# Altium schematic symbol library Schlib2.SchLib: 2 symbols
Pins are listed as number, name and electrical type; pins without a type are passive.

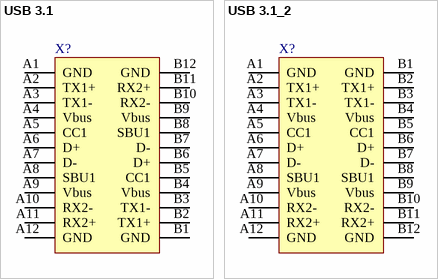
[diagram p0: symbols USB 3.1 to USB 3.1_2]

## USB 3.1
designator X?, comment USB_3_1  (value not drawn)
USB 3.1 Connector; Manufacturer: Amphenol Commercial Products; Manufacturer Part Number: 12401548E4#2A; Connector Type: USB - C; Number of Contacts: 24; Gender: Receptacle; Specifications: USB 3.1, Superspeed+; Supplier 1: Digi-Key; Supplier Part Number 1: 12401548E4#2ACT-ND; RoHS: RoHS Compliant; Category: Connectors, Interconnects; Stock 1: 5275; Pricing 1: 1=1.87, 10=1.698, 25=1.594, 50=1.5246, 100=1.4553, 250=1.31672 (USD); Packaging: Cut Tape (CT); Mounting Type: Surface Mount, Right Angle; Through Hole; Features: Board Guide; Ingress Protection: -; ComponentLink1URL: https://www.amphenolcanada.com/ProductSearch/drawings/AC/12401548E4#2A.pdf; ComponentLink1Description: https://www.amphenolcanada.com/ProductSearch/drawings/AC/12401548E4#2A.pdf
footprint USB_3.1
pins: A1 GND, A2 TX1+, A3 TX1-, A4 Vbus, A5 CC1, A6 D+, A7 D-, A8 SBU1, A9 Vbus, A10 RX2-, A11 RX2+, A12 GND, B1 GND, B2 TX1+, B3 TX1-, B4 Vbus, B5 CC1, B6 D+, B7 D-, B8 SBU1, B9 Vbus, B10 RX2-, B11 RX2+, B12 GND

## USB 3.1_2
designator X?, comment USB_3_2  (value not drawn)
USB 3.1 Connector; Manufacturer: Amphenol Commercial Products; Manufacturer Part Number: 12401548E4#2A; Connector Type: USB - C; Number of Contacts: 24; Gender: Receptacle; Specifications: USB 3.1, Superspeed+; Supplier 1: Digi-Key; Supplier Part Number 1: 12401548E4#2ACT-ND; RoHS: RoHS Compliant; Category: Connectors, Interconnects; Stock 1: 5275; Pricing 1: 1=1.87, 10=1.698, 25=1.594, 50=1.5246, 100=1.4553, 250=1.31672 (USD); Packaging: Cut Tape (CT); Mounting Type: Surface Mount, Right Angle; Through Hole; Features: Board Guide; Ingress Protection: -; ComponentLink1URL: https://www.amphenolcanada.com/ProductSearch/drawings/AC/12401548E4#2A.pdf; ComponentLink1Description: https://www.amphenolcanada.com/ProductSearch/drawings/AC/12401548E4#2A.pdf
footprint USB_3.1
pins: A1 GND, A2 TX1+, A3 TX1-, A4 Vbus, A5 CC1, A6 D+, A7 D-, A8 SBU1, A9 Vbus, A10 RX2-, A11 RX2+, A12 GND, B1 GND, B2 TX1+, B3 TX1-, B4 Vbus, B5 CC1, B6 D+, B7 D-, B8 SBU1, B9 Vbus, B10 RX2-, B11 RX2+, B12 GND